# Altium footprint library thuvienthong_Module.PcbLib: 8 footprints
Each footprint in its own frame and in the unit in brackets; x right, y up, seen from the top. Pads: shape width x height; smd on the part's side, far side on the other; paste and mask are expansions set on the pad; w line width, h text height; cw(c..) or ccw(c..) is an arc to the next point about the centre after c.
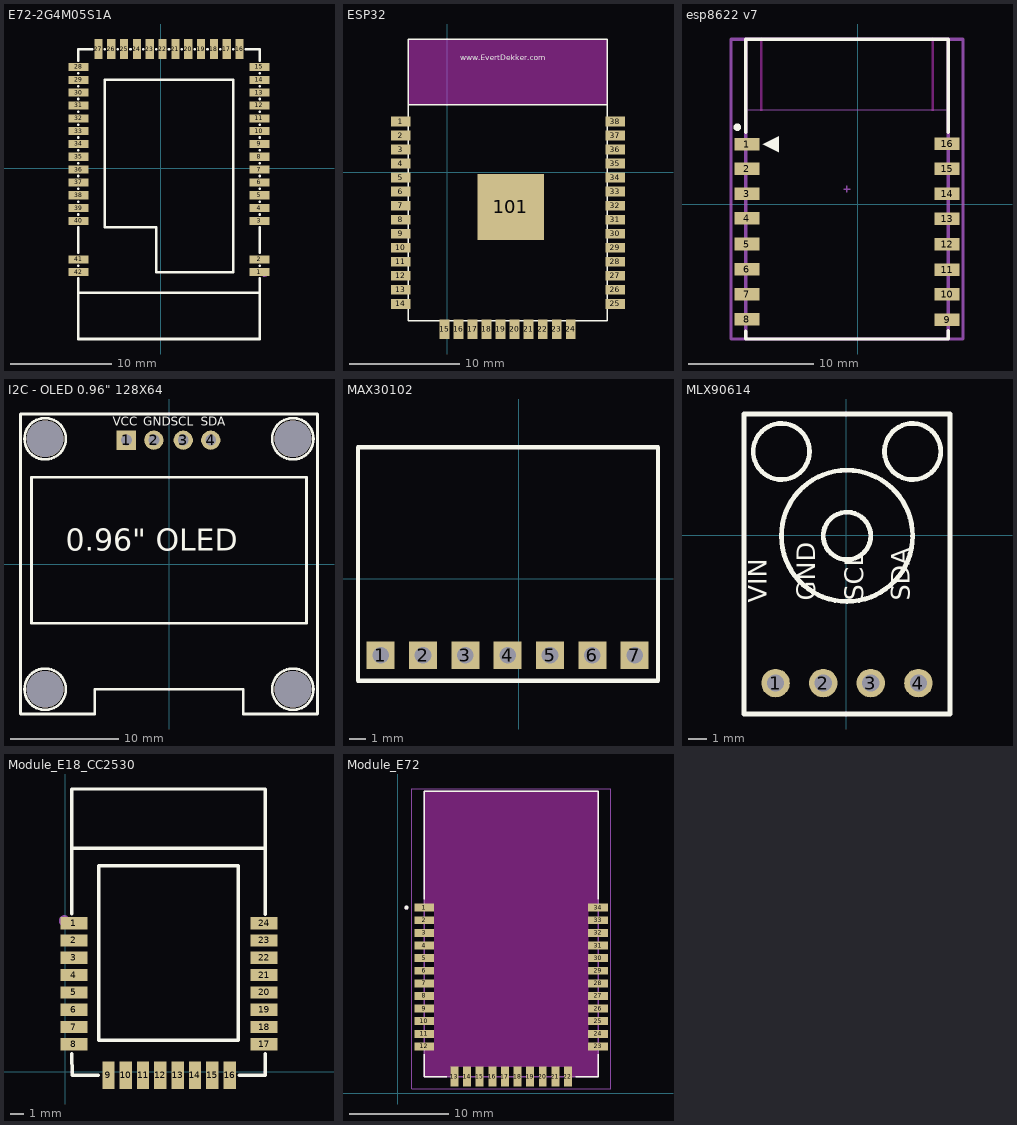
[diagram p0: the footprints below, top view; thin cyan lines are the x and y axes]

## E72-2G4M05S1A [mm]
pads (42):
  rect 2x0.8 smd: 1(9.756,-10.271) 2(9.756,-9.001) 3(9.756,-5.201) 4(9.756,-3.931) 5(9.756,-2.661) 6(9.756,-1.391) 7(9.756,-0.121) 8(9.756,1.149) 9(9.756,2.419) 10(9.756,3.689) 11(9.756,4.959) 12(9.756,6.229) 13(9.756,7.499) 14(9.756,8.769) 15(9.756,10.039) 28(-8.144,10.039) 29(-8.144,8.769) 30(-8.144,7.499) 31(-8.144,6.229) 32(-8.144,4.959) 33(-8.144,3.689) 34(-8.144,2.419) 35(-8.144,1.149) 36(-8.144,-0.121) 37(-8.144,-1.391) 38(-8.144,-2.661) 39(-8.144,-3.931) 40(-8.144,-5.201) 41(-8.144,-9.001) 42(-8.144,-10.271)
  rect 0.8x2 smd: 16(7.791,11.809) 17(6.521,11.809) 18(5.251,11.809) 19(3.981,11.809) 20(2.711,11.809) 21(1.441,11.809) 22(0.171,11.809) 23(-1.099,11.809) 24(-2.369,11.809) 25(-3.639,11.809) 26(-4.909,11.809) 27(-6.179,11.809)
Top Overlay:
  lines w0.254: -8.194,-12.298 9.806,-12.298 ; -8.194,-10.902 -8.194,-16.891 9.806,-16.891 9.806,-10.902 ; -8.194,-9.64 -8.194,-9.632 ; -8.194,-8.37 -8.194,-5.832 ; -8.194,-4.57 -8.194,-4.562 ; -8.194,-3.3 -8.194,-3.292 ; -8.194,-2.03 -8.194,-2.022 ; -8.194,-0.76 -8.194,-0.752 ; -8.194,0.51 -8.194,0.518 ; -8.194,1.78 -8.194,1.788 ; -8.194,3.05 -8.194,3.058 ; -8.194,4.32 -8.194,4.328 ; -8.194,5.59 -8.194,5.598 ; -8.194,6.86 -8.194,6.868 ; -8.194,8.13 -8.194,8.138 ; -8.194,9.4 -8.194,9.408 ; -8.194,10.67 -8.194,11.809 -6.81,11.809 ; -5.548,11.809 -5.54,11.809 ; -4.278,11.809 -4.27,11.809 ; -3.008,11.809 -3,11.809 ; -1.738,11.809 -1.73,11.809 ; -0.468,11.809 -0.46,11.809 ; 0.802,11.809 0.81,11.809 ; 2.072,11.809 2.08,11.809 ; 3.342,11.809 3.35,11.809 ; 4.612,11.809 4.62,11.809 ; 5.882,11.809 5.89,11.809 ; 7.152,11.809 7.16,11.809 ; 8.422,11.809 9.806,11.809 9.806,11.319 9.806,10.67 ; 9.806,-9.64 9.806,-9.632 ; 9.806,-8.37 9.806,-5.832 ; 9.806,-4.57 9.806,-4.562 ; 9.806,-3.3 9.806,-3.292 ; 9.806,-2.03 9.806,-2.022 ; 9.806,-0.76 9.806,-0.752 ; 9.806,0.51 9.806,0.518 ; 9.806,1.78 9.806,1.788 ; 9.806,3.05 9.806,3.058 ; 9.806,4.32 9.806,4.328 ; 9.806,5.59 9.806,5.598 ; 9.806,6.86 9.806,6.868 ; 9.806,8.13 9.806,8.138 ; 9.806,9.4 9.806,9.408 ; -5.544,-5.826 -0.464,-5.826 -0.464,-10.271 7.156,-10.271 7.156,8.779 -5.544,8.779 -5.544,-5.826
Mechanical 15:
  circle w0.4: c10.256,-10.331 r0.2

## ESP32 [mm]
pads (39):
  rect 1.778x0.9 smd: 1(-4.201,4.569) 2(-4.201,3.299) 3(-4.201,2.029) 4(-4.201,0.759) 5(-4.201,-0.511) 6(-4.201,-1.781) 7(-4.201,-3.051) 8(-4.201,-4.321) 9(-4.201,-5.591) 10(-4.201,-6.861) 11(-4.201,-8.131) 12(-4.201,-9.401) 13(-4.201,-10.671) 14(-4.201,-11.941) 25(15.256,-11.941) 26(15.256,-10.671) 27(15.256,-9.401) 28(15.256,-8.131) 29(15.256,-6.861) 30(15.256,-5.591) 31(15.256,-4.321) 32(15.256,-3.051) 33(15.256,-1.781) 34(15.256,-0.511) 35(15.256,0.759) 36(15.256,2.029) 37(15.256,3.299) 38(15.256,4.569)
  rect 0.9x1.778 smd: 15(-0.215,-14.244) 16(1.055,-14.244) 17(2.325,-14.244) 18(3.595,-14.244) 19(4.865,-14.244) 20(6.135,-14.244) 21(7.405,-14.244) 22(8.675,-14.244) 23(9.945,-14.244) 24(11.215,-14.244)
  rect 6x6 smd: 101(5.785,-3.165)
Top Overlay:
  lines w0.127: -3.515,6.093 14.519,6.093 ; -3.515,-13.465 14.519,-13.465 14.519,12.062 -3.515,12.062 -3.515,-13.465
  text "www.EvertDekker.com" at 1.184,10.157 h0.5
Keep-Out Layer:
  rectangle: -3.515,6.093 14.519,12.062
3D body: height 2, standoff 0.8, extent -2.88,-12.83 14.011,6.093
3D body: height 0.8, standoff 0, extent -3.515,-13.465 14.519,12.062

## esp8622 v7 [mm]
pads (16):
  rect 2x1 smd: 1(-8.864,4.792) 2(-8.864,2.822) 3(-8.864,0.822) 4(-8.864,-1.148) 5(-8.864,-3.188) 6(-8.864,-5.198) 7(-8.864,-7.188) 8(-8.864,-9.198) 9(7.136,-9.238) 10(7.136,-7.198) 11(7.136,-5.238) 12(7.136,-3.218) 13(7.136,-1.158) 14(7.136,0.822) 15(7.136,2.842) 16(7.136,4.822)
Top Overlay:
  circle w0.3: c-9.626,6.148 r0.15
  region: -7.594,4.792 -6.324,4.157 -6.324,5.427
  lines w0.254: -8.947,-10.124 -8.947,-10.776 7.22,-10.776 7.22,-10.124 ; -8.947,5.709 -8.947,13.163 7.22,13.163 7.22,5.708
Keep-Out Layer:
  lines w0.203: -7.722,7.544 -7.722,13.189 ; 5.994,7.544 5.994,13.189
Mechanical 13:
  lines w0.051: -8.991,7.52 -8.991,13.174 7.265,13.174 7.265,7.52 -8.991,7.52
  lines w0.254: -8.947,-10.776 7.22,-10.776 7.22,13.163 -8.947,13.163 -8.947,-10.776
  text "CUTOUT POLYGON" at -8.737,12.158 h0.25
  text "ANTENNA AREA" at -8.737,12.666 h0.25
Mechanical 15:
  lines w0.1: -1.118,1.194 -0.61,1.194 ; -0.864,0.94 -0.864,1.448
  lines w0.254: -10.134,-10.776 -10.134,13.163 8.408,13.163 8.408,-10.776 -10.134,-10.776
3D body "ESP_12_E.STEP": height 2.75, standoff 0.04, extent -8.863,-10.699 7.137,13.301

## I2C - OLED 0.96" 128X64 [mm]
pads (8):
  rect 1.778x1.778 hole 1: 1(-3.937,11.43)
  round 1.778 hole 1: 2(-1.397,11.43) 3(1.314,11.43) 4(3.854,11.43)
  round 3.4 hole 3.4: ""(-11.43,-11.557) ""(-11.43,11.557) ""(11.43,-11.557) ""(11.43,11.557)
Top Overlay:
  circle w0.254: c11.43,-11.557 r1.905
  circle w0.254: c-11.43,-11.557 r1.905
  circle w0.254: c-11.43,11.557 r1.905
  circle w0.254: c11.43,11.557 r1.905
  lines w0.254: -13.716,-13.843 -6.858,-13.843 -6.858,-11.557 6.858,-11.557 6.858,-13.843 13.716,-13.843 13.716,13.843 -13.716,13.843 -13.716,-13.843 ; -12.7,-5.461 -12.7,7.239 -12.7,8.001 12.7,8.001 12.7,-5.461 -12.7,-5.461
  text "SDA" at 2.944,12.763 h0.8
  text "SCL" at 0.17,12.743 h0.8
  text "GND" at -2.37,12.743 h0.8
  text "VCC" at -5.184,12.763 h0.8
  text "0.96\" OLED" at -9.532,1.219 h2.03
3D body "OLED 128x64.STP": height 10.47, standoff -0.37, extent -13.365,-14.057 13.335,13.803

## MAX30102 [mil]
pads (7):
  rect 66x66 hole 39.4: 1(-325.67,-180.59) 2(-225.67,-180.59) 3(-125.67,-180.59) 4(-25.67,-180.59) 5(74.33,-180.59) 6(174.33,-180.59) 7(274.33,-180.59)
Top Overlay:
  lines w10: -379.33,-240.59 -379.33,310.59 329.33,310.59 329.33,-240.59 -379.33,-240.59
3D body "30100.SLDPRT": height 98.43, standoff -275.59, extent -384.33,-235 324.33,316.18

## MLX90614 [mil]
pads (4):
  round 60 hole 36: 1(-148.05,-309.92) 2(-48.05,-309.92) 3(51.95,-309.92) 4(151.95,-309.92)
Top Overlay:
  circle w10: c1.95,-0.87 r49.8
  circle w10: c1.95,-0.87 r137.8
  circle w10: c139.75,176.3 r59.06
  circle w10: c-135.84,176.3 r59.06
  lines w10: -214.59,-374.88 -214.59,255.04 218.48,255.04 218.48,-374.88 -214.59,-374.88
  text "SDA" at 133.61,-136.81 h39.37
  text "SCL" at 36.17,-136.81 h39.37
  text "GND" at -64.23,-136.81 h39.37
  text "VIN" at -166.59,-141.4 h39.37
Mechanical 15:
  lines w0.1: -52.92,-14.97 -52.9,-14.95
3D body "HW-691.STEP": height 426.54, standoff -203.38, extent -236.22,-365 236.22,304.29

## Module_E18_CC2530 [mm]
pads (24):
  rect 2x0.9 smd: 1(0.648,10.911) 2(0.648,9.641) 3(0.648,8.371) 4(0.648,7.101) 5(0.648,5.831) 6(0.648,4.561) 7(0.648,3.291) 8(0.648,2.021) 17(14.592,2.021) 18(14.592,3.291) 19(14.592,4.561) 20(14.592,5.831) 21(14.592,7.101) 22(14.592,8.371) 23(14.592,9.641) 24(14.592,10.911)
  rect 0.9x2 smd: 9(3.175,-0.254) 10(4.445,-0.254) 11(5.715,-0.254) 12(6.985,-0.254) 13(8.255,-0.254) 14(9.525,-0.254) 15(10.795,-0.254) 16(12.065,-0.254)
Top Overlay:
  lines w0.254: 0.492,1.339 0.522,-0.254 2.432,-0.254 ; 0.492,11.592 0.492,20.746 ; 0.552,16.386 14.632,16.386 ; 12.755,-0.254 14.662,-0.254 ; 14.692,-0.254 14.692,1.333 ; 14.692,11.576 14.692,20.746 ; 0.492,20.746 14.692,20.746 ; 0.492,20.746 14.692,20.746 ; 2.472,2.306 12.712,2.306 12.712,15.106 2.472,15.106 2.472,2.306
Mechanical 15:
  circle w0.4: c-0.055,11.088 r0.2
3D body "e18-ms1-pcb.STEP": height 2.4, standoff -0.1, extent 0.52,-0.379 14.72,22.67

## Module_E72 [mm]
pads (34):
  rect 2x0.8 smd: 1(2.667,18.669) 2(2.667,17.399) 3(2.667,16.129) 4(2.667,14.859) 5(2.667,13.589) 6(2.667,12.319) 7(2.667,11.049) 8(2.667,9.779) 9(2.667,8.509) 10(2.667,7.239) 11(2.667,5.969) 12(2.667,4.699) 23(20.167,4.699) 24(20.167,5.969) 25(20.167,7.239) 26(20.167,8.509) 27(20.167,9.779) 28(20.167,11.049) 29(20.167,12.319) 30(20.167,13.589) 31(20.167,14.859) 32(20.167,16.129) 33(20.167,17.399) 34(20.167,18.669)
  rect 0.8x2 smd: 13(5.702,1.664) 14(6.972,1.664) 15(8.242,1.664) 16(9.512,1.664) 17(10.782,1.664) 18(12.052,1.664) 19(13.322,1.664) 20(14.592,1.664) 21(15.862,1.664) 22(17.132,1.664)
Top Overlay:
  circle w0.2: c0.867,18.669 r0.1
  lines w0.127: 2.667,3.914 2.667,1.664 4.917,1.664 ; 2.667,19.524 2.667,30.364 20.167,30.364 20.167,19.524 ; 17.917,1.664 20.167,1.664 20.167,3.914
Keep-Out Layer:
  region: 20.167,19.069 19.167,19.069 19.167,4.299 20.167,4.299 20.167,1.664 17.527,1.664 17.527,2.664 5.302,2.669 5.302,1.669 2.667,1.664 2.667,4.299 3.667,4.299 3.667,19.064 2.667,19.064 2.667,30.364 20.167,30.364
Mechanical 13:
  circle w0.2: c0.867,18.669 r0.1
  lines w0.127: 2.667,1.664 2.667,30.364 20.167,30.364 20.167,1.664 2.667,1.664
Mechanical 15:
  lines w0.05: 1.417,0.414 21.417,0.414 21.417,30.614 1.417,30.614 1.417,0.414
3D body "E72-2G4M20S1E--3DModel-STEP-270302.STEP": height 2.5, standoff 0, extent 2.654,1.791 20.154,30.491